# Altium schematic symbol library SSW-115-02-T-S.SchLib: 1 symbol
Pins are listed as number, name and electrical type; pins without a type are passive.

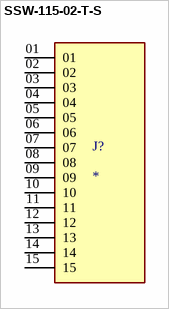
[diagram p0: symbol SSW-115-02-T-S]

## SSW-115-02-T-S
designator J?
15 Position Receptacle Connector 0.100 (2.54mm) Through Hole, Right Angle Tin; MF: Samtec; MP: SSW-115-02-T-S; SnapEDA_Link: https://www.snapeda.com/parts/SSW-115-02-T-S/Samtec/view-part/?ref=snap; Package: None; Value: *; Check_prices: https://www.snapeda.com/parts/SSW-115-02-T-S/Samtec/view-part/?ref=eda
footprint SAMTEC_SSW-115-02-T-S
pins: 01, 02, 03, 04, 05, 06, 07, 08, 09, 10, 11, 12, 13, 14, 15